# Altium footprint library MOLDUL_L298.PcbLib: 1 footprints
Each footprint in its own frame and in the unit in brackets; x right, y up, seen from the top. Pads: shape width x height; smd on the part's side, far side on the other; paste and mask are expansions set on the pad; w line width, h text height; cw(c..) or ccw(c..) is an arc to the next point about the centre after c.
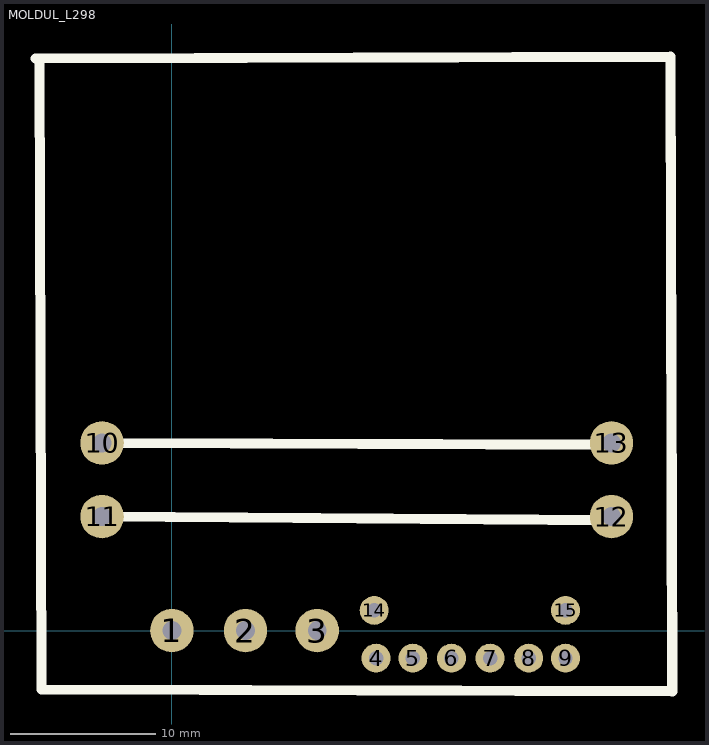
[diagram p0: the footprint, top view; thin cyan lines are the x and y axes]

## MOLDUL_L298 [mm] "MOLDUL_L298"
pads (15):
  round 3 hole 1.3: 1(0,0) 2(5.08,0) 3(10.033,0) 10(-4.826,12.954) 11(-4.826,7.874) 12(30.353,7.874) 13(30.353,12.954)
  round 2 hole 1: 4(14.097,-1.905) 5(16.637,-1.905) 6(19.304,-1.905) 7(21.971,-1.905) 8(24.638,-1.905) 9(27.178,-1.905) 14(13.97,1.397) 15(27.178,1.397)
Top Overlay:
  lines w0.7: -9.398,39.497 34.417,39.624 34.544,-4.191 -9.017,-4.064 -9.144,39.497 ; -4.826,7.874 30.353,7.62 ; -4.826,12.954 30.48,12.827
3D body "L298N.stp": height 26.5, standoff -1.5, extent -9.017,-4.064 34.483,39.436